# Altium footprint library WPN4020H2R2MT.PcbLib: 3 footprints
Each footprint in its own frame and in the unit in brackets; x right, y up, seen from the top. Pads: shape width x height; smd on the part's side, far side on the other; paste and mask are expansions set on the pad; w line width, h text height; cw(c..) or ccw(c..) is an arc to the next point about the centre after c.
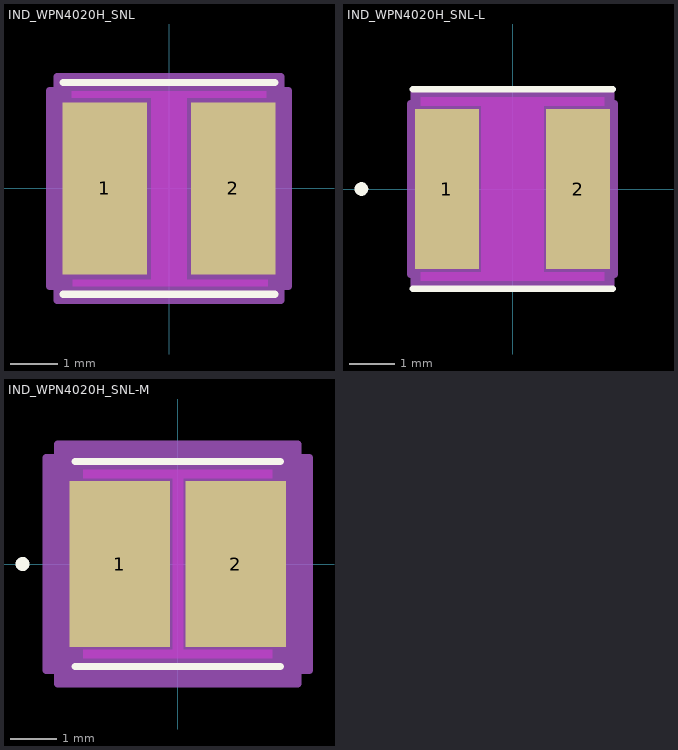
[diagram p0: the footprints below, top view; thin cyan lines are the x and y axes]

## IND_WPN4020H_SNL [mil]
pads (2):
  rect 70x142 smd paste+0 mask+0: 1(-53,0) 2(53,0)
Top Layer keep-out:
  region: -79.5,-81 -79.5,-75.5 81.5,-75.5 81.5,-81
  region: -80.5,74.8 -80.5,80.3 80.5,80.3 80.5,74.8
  region: -14.76,-75.5 -14.76,75.79 14.76,75.79 14.76,-75.5
Top Overlay:
  lines w6: -87.5,-87.5 87.5,-87.5 ; -87.5,87.5 87.5,87.5
Keep-Out Layer:
  region: -14.76,-75.5 -14.76,74.8 13.78,74.8 13.78,-75.5
Mechanical 13:
  lines w1: -82.5,-82.5 82.5,-82.5 82.5,82.5 -82.5,82.5 -82.5,-82.5
Mechanical 15:
  region: -90.53,-81.96 -96.53,-81.96 -96.53,80.04 -90.53,80.04 -90.53,91.54 94.47,91.54 94.47,80.04 100.47,80.04 100.47,-81.96 94.47,-81.96 94.47,-93.46 -90.53,-93.46
  lines w6: -98.5,-81 -98.5,81 -92.5,81 -92.5,92.5 92.5,92.5 92.5,81 98.5,81 98.5,-81 92.5,-81 92.5,-92.5 -92.5,-92.5 -92.5,-81 -98.5,-81
3D body "IND_WPN4020H_SNL.step": height 80.98, standoff 0, extent -82.52,-82.52 82.52,82.52

## IND_WPN4020H_SNL-L [mil]
pads (2):
  rect 56x140 smd paste+0 mask+0: 1(-57.5,0) 2(57.5,0)
Top Layer keep-out:
  region: -80.5,-80.5 -80.5,-73 80.5,-73 80.5,-80.5
  region: -80.5,73 -80.5,80.5 80.5,80.5 80.5,73
  region: -27.5,-73 -27.5,73 27.5,73 27.5,-73
Top Overlay:
  circle w6: c-132.5,0 r3
  lines w6: -87.5,-87.5 87.5,-87.5 ; -87.5,87.5 87.5,87.5
Keep-Out Layer:
  region: -27.5,-73 -27.5,73 27.5,73 27.5,-73
Mechanical 13:
  circle w0: c-62.5,0 r3
  lines w1: -82.5,-82.5 -82.5,82.5 82.5,82.5 82.5,-82.5 -82.5,-82.5
Mechanical 15:
  region: -86.5,-75 -89.5,-75 -89.5,75 -86.5,75 -86.5,86.5 86.5,86.5 86.5,75 89.5,75 89.5,-75 86.5,-75 86.5,-86.5 -86.5,-86.5
  lines w6: -89.5,-75 -86.5,-75 -86.5,-86.5 86.5,-86.5 86.5,-75 89.5,-75 89.5,75 86.5,75 86.5,86.5 -86.5,86.5 -86.5,75 -89.5,75 -89.5,-75
3D body "IND_WPN4020H_SNL.step": height 80.98, standoff 0, extent -82.52,-82.52 82.52,82.52

## IND_WPN4020H_SNL-M [mil]
pads (2):
  rect 86x142 smd paste+0 mask+0: 1(-49.5,0) 2(49.5,0)
Top Layer keep-out:
  region: -80.5,-80.5 -80.5,-73 80.5,-73 80.5,-80.5
  region: -80.5,73 -80.5,80.5 80.5,80.5 80.5,73
  region: -4.5,-73 -4.5,73 4.5,73 4.5,-73
Top Overlay:
  circle w6: c-132.5,0 r3
  lines w6: -87.5,-87.5 87.5,-87.5 ; -87.5,87.5 87.5,87.5
Keep-Out Layer:
  region: -4.5,-73 -4.5,73 4.5,73 4.5,-73
Mechanical 13:
  circle w0: c-62.5,0 r3
  lines w1: -82.5,-82.5 -82.5,82.5 82.5,82.5 82.5,-82.5 -82.5,-82.5
Mechanical 15:
  region: -102.5,-91 -112.5,-91 -112.5,91 -102.5,91 -102.5,102.5 102.5,102.5 102.5,91 112.5,91 112.5,-91 102.5,-91 102.5,-102.5 -102.5,-102.5
  lines w6: -112.5,-91 -102.5,-91 -102.5,-102.5 102.5,-102.5 102.5,-91 112.5,-91 112.5,91 102.5,91 102.5,102.5 -102.5,102.5 -102.5,91 -112.5,91 -112.5,-91
3D body "IND_WPN4020H_SNL.step": height 80.98, standoff 0, extent -82.52,-82.52 82.52,82.52